# Altium schematic symbol library 2020-07-05_11-12-24.SchLib: 2 symbols
Pins are listed as number, name and electrical type; pins without a type are passive.

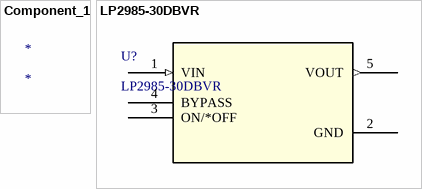
[diagram p0: symbols Component_1 to LP2985-30DBVR]

## Component_1
designator *

## LP2985-30DBVR
designator U?
No Description Available; Manufacturer: Texas Instruments; SourceLibrary: TI_2014-06-19; Built_By: EMA_UL_Team; Manufacturer_Part_Number: LP2985-30DBVR; Vendor: Texas Instruments; Copyright: Copyright (C) 2018 Accelerated Designs. All rights reserved; RefDes: RefDes; Type: DEV
footprint DBV5_TEX
pins: 1 VIN (in), 2 GND (power), 3 ON/*OFF, 4 BYPASS, 5 VOUT (out)